# EAGLE library part LIS302SG (library ST_Microelctronics_By_element14_Batch_1)
MEMS motion sensor
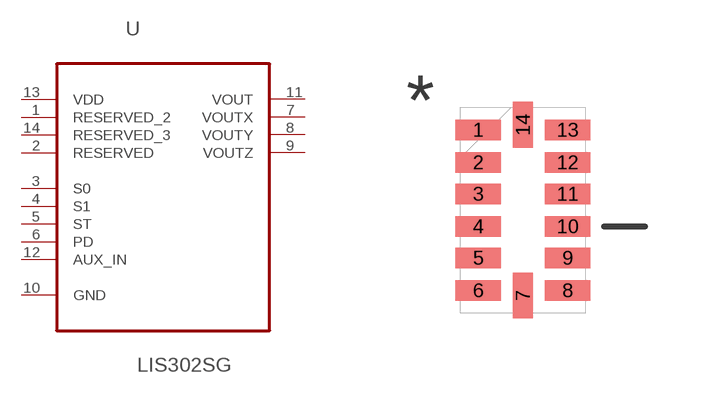
[diagram p70: symbol with the pads of LGA14R80P1X6_500X300X100; footprint LGA14R80P1X6_500X300X100]

Designator prefix U

## LIS302SG (MPN: LIS302SG; OC_FARNELL: 1838517; OC_NEWARK: 56P7983; PACKAGE: LGA-14; SUPPLIER: STMicroelectronics)  [LGA14R80P1X6_500X300X100]
1  RESERVED_2  pwr
2  RESERVED  pwr
3  S0  in
4  S1  in
5  ST  in
6  PD  in
7  VOUTX  out
8  VOUTY  out
9  VOUTZ  out
10  GND  pas
11  VOUT  out
12  AUX_IN  in
13  VDD  pwr
14  RESERVED_3  pwr

## Footprint LGA14R80P1X6_500X300X100 (pad centres in mm)
smd 1.143 x 0.508: 1 -1.118,2.007; 2 -1.118,1.194; 3 -1.118,0.406; 4 -1.118,-0.406; 5 -1.118,-1.194; 6 -1.118,-2.007; 8 1.118,-2.007; 9 1.118,-1.194; 10 1.118,-0.406; 11 1.118,0.406; 12 1.118,1.194; 13 1.118,2.007
smd 0.508 x 1.143: 7 0,-2.134; 14 0,2.134